# EAGLE library part IR4427 (library irf)
Dual low side MOSFET/IGBT driver
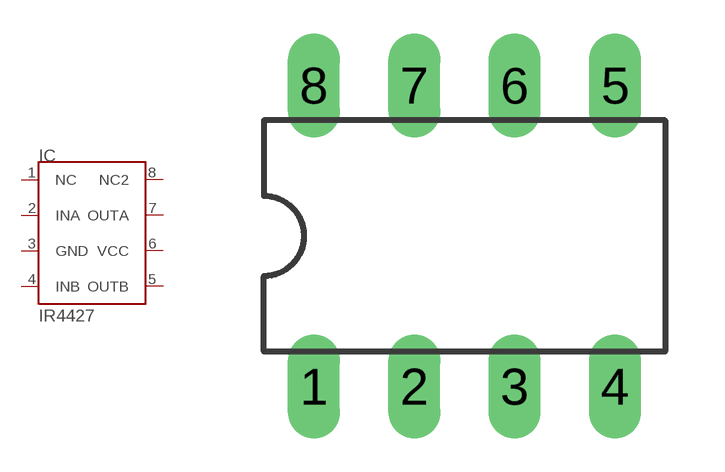
[diagram p6: symbol with the pads of DIL08; footprint DIL08]

Designator prefix IC

## IR4427  [DIL08]
1  NC  nc
2  INA  in
3  GND  sup
4  INB  in
5  OUTB  out
6  VCC  sup
7  OUTA  out
8  NC2  nc

## Footprint DIL08 (pad centres in mm)
Dual In Line Package
drill 0.813 long: 1 -3.81,-3.81; 2 -1.27,-3.81; 3 1.27,-3.81; 4 3.81,-3.81; 5 3.81,3.81; 6 1.27,3.81; 7 -1.27,3.81; 8 -3.81,3.81